# Altium footprint library SOIC8.PcbLib: 1 footprints
Each footprint in its own frame and in the unit in brackets; x right, y up, seen from the top. Pads: shape width x height; smd on the part's side, far side on the other; paste and mask are expansions set on the pad; w line width, h text height; cw(c..) or ccw(c..) is an arc to the next point about the centre after c.
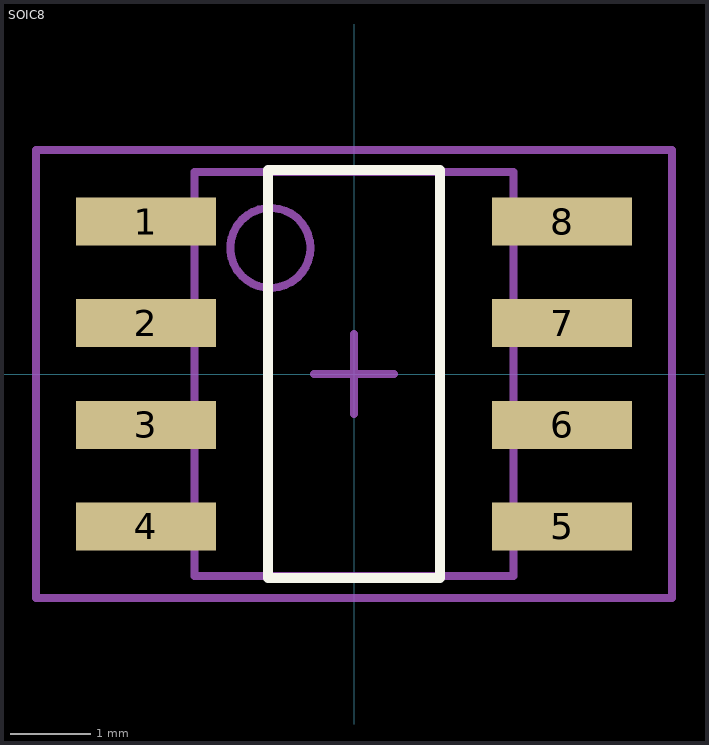
[diagram p0: the footprint, top view; thin cyan lines are the x and y axes]

## SOIC8 [mm]
height 1.75
pads (8):
  rect 1.75x0.6 smd: 1(-2.6,1.905) 2(-2.6,0.635) 3(-2.6,-0.635) 4(-2.6,-1.905) 5(2.6,-1.905) 6(2.6,-0.635) 7(2.6,0.635) 8(2.6,1.905)
Top Overlay:
  lines w0.127: -1.075,-2.55 -1.075,2.55 1.075,2.55 1.075,-2.55 -1.075,-2.55
  text "." at -3.891,1.91 h0.38
Mechanical 13:
  circle w0.1: c-1.045,1.575 r0.5
  lines w0.1: -1.995,-2.525 -1.995,2.525 1.995,2.525 1.995,-2.525 -1.995,-2.525
Mechanical 15:
  lines w0.1: -0.5,0 0.5,0 ; 0,-0.5 0,0.5 ; -3.975,-2.8 -3.975,2.8 3.975,2.8 3.975,-2.8 -3.975,-2.8
3D body: height 1.75, standoff 0, extent -3.006,-2.515 3.006,2.485